# Altium schematic symbol library TEP-AltiumLib-Connectors.SCHLIB: 45 symbols
Pins are listed as number, name and electrical type; pins without a type are passive.

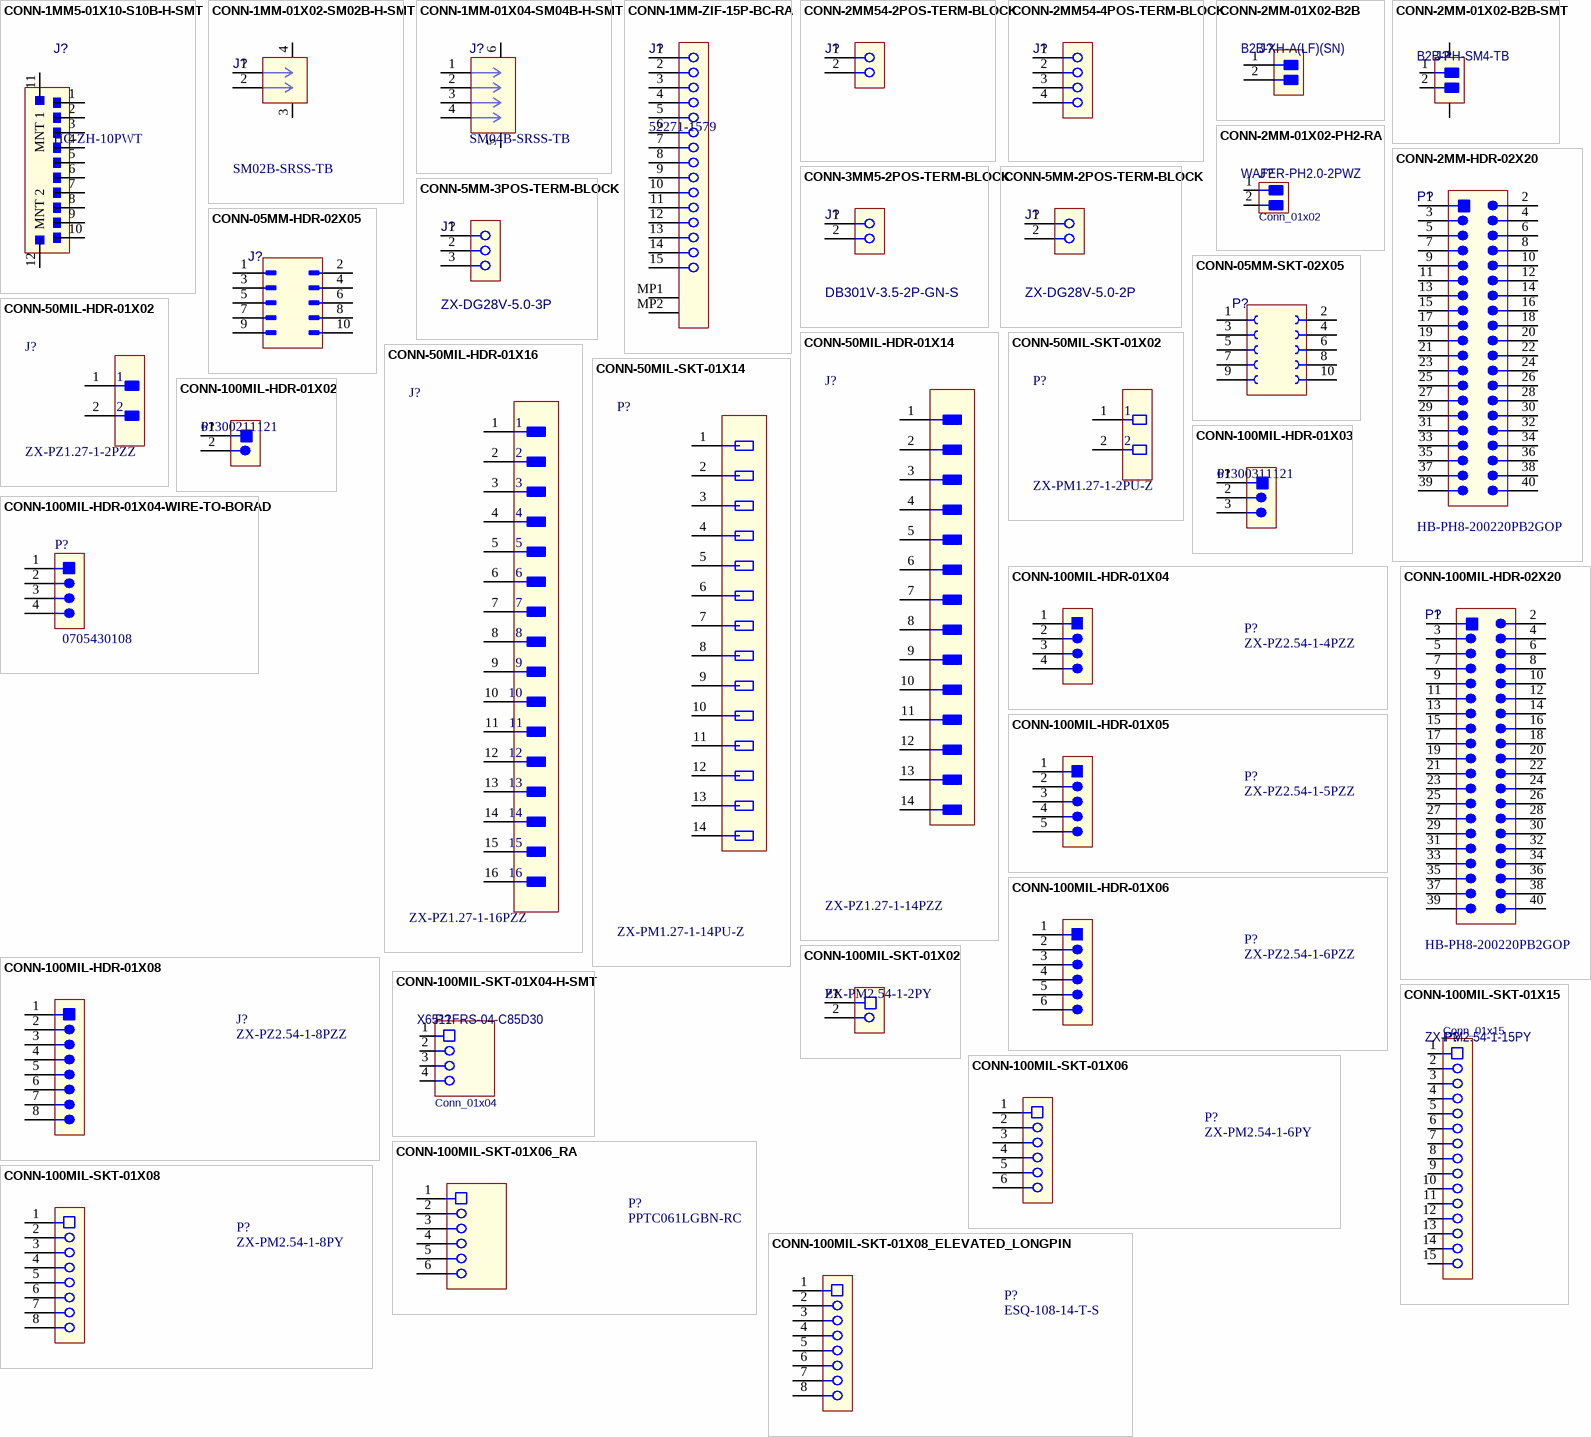
[diagram p0: symbols CONN-1MM5-01X10-S10B-H-SMT to CONN-100MIL-SKT-01X15]

## CONN-1MM5-01X10-S10B-H-SMT
designator J?, comment HC-ZH-10PWT
CONN wire to board SMT R/A 10POS 1.5mm; Manufacturer 1: HCTL; Manufacturer Part Number 1: HC-ZH-10PWT; Manufacturer 2: JST; Manufacturer Part Number 2: S10B-ZR-SM4A-TF(LF)(SN); Mounting Technology: SMT; Supplier 1: LCSC; Supplier 2: LCSC; Supplier Part Number 1: C2845432; Supplier Part Number 2: C5149249; Supplier 3: Digikey; Supplier Part Number 3: 455-1700-1-ND
footprint J_S10B-ZR-SM4 (CONN HEADER SMD 10POS 1MM5 RA)
pins: 1, 2, 3, 4, 5, 6, 7, 8, 9, 10, 11 MNT 1, 12 MNT 2

## CONN-1MM-01X02-SM02B-H-SMT
designator J?, comment SM02B-SRSS-TB
CONN HEADER SMT R/A 2POS 1MM; Manufacturer 1: JST; Manufacturer Part Number 1: SM02B-SRSS-TB; Manufacturer 2: G-Switch; Manufacturer Part Number 2: GT-A1002WRS-102SBT01; Mounting Technology: SMT; Supplier 1: Digikey; Supplier 2: LSSC; Supplier Part Number 1: 455-SM02B-SRSS-TBCT-ND; Supplier Part Number 2: C41431902
footprint CONN_SM02B-SRSS-TB_JST
pins: 1, 2, 3, 4

## CONN-1MM-01X04-SM04B-H-SMT
designator J?, comment SM04B-SRSS-TB
CONN HEADER SMT R/A 4POS 1MM; Manufacturer 1: JST; Manufacturer Part Number 1: SM04B-SRSS-TB; Manufacturer 2: G-Switch; Manufacturer Part Number 2: GT-A1002WRS-104SBT01; Mounting Technology: SMT; Supplier 1: Digikey; Supplier 2: LSSC; Supplier Part Number 1: 455-SM04B-SRSS-TBCT-ND; Supplier Part Number 2: C41431904
footprint CONN_SM04B-SRSS-TB_JST
pins: 1, 2, 3, 4, 5, 6

## CONN-1MM-ZIF-15P-BC-RA
designator J?, comment 52271-1579
Conns. ZIF 1.0 mm Pitch, Right Angle, Bottom Contact, 15pos; Manufacturer 1: Molex; Mounting Technology: SMT; Manufacturer Part Number 1: 52271-1579; Supplier 1: Digikey; Supplier 2: LSSC; Supplier Part Number 1: WM10967CT-ND; Supplier Part Number 2: C7545783
footprint MOLX-52271-1579 (FPC Connector, 15-Leads, Right Angle, Pitch 1.0 mm, Mated Height 3.0 mm, SMT)
pins: 1, 2, 3, 4, 5, 6, 7, 8, 9, 10, 11, 12, 13, 14, 15, MP1, MP2

## CONN-2MM54-2POS-TERM-BLOCK
designator J?
CONN TERM BLOCK 2POS 100mil pitch; Manufacturer 1: Dorabo; Manufacturer Part Number 1: DB125-2.54-2P-GN-S; Supplier 1: LCSC; Supplier Part Number 1: C918120; Mounting Technology: TH; Manufacturer 2: Amphenol; Manufacturer Part Number 2: VN02A1500000G; Supplier 2: Digikey; Supplier Part Number 2: VN02A1500000G-ND
footprint CONN_TERM_BLOCK_2POS_100MIL (2.54 mm Horizontal Entry Modular, 2 positions)
pins: 1 "USB Vcc [Red]", 2 "USB Data - [White]"

## CONN-2MM54-4POS-TERM-BLOCK
designator J?
CONN TERM BLOCK 4POS 100mil pitch; Manufacturer 1: Dorabo; Manufacturer Part Number 1: DB125-2.54-4P-GN-S; Supplier 1: LCSC; Supplier Part Number 1: C918122; Mounting Technology: TH; Manufacturer 2: Amphenol; Manufacturer Part Number 2: VN04A1500000G; Supplier 2: Digikey; Supplier Part Number 2: VN04A1500000G-ND
footprint CONN_TERM_BLOCK_4POS_100MIL (2.54 mm Horizontal Entry Modular, 4 positions)
pins: 1 "USB Vcc [Red]", 2 "USB Data - [White]", 3 "USB Data - [White]", 4 "USB Data - [White]"

## CONN-2MM-01X02-B2B
designator J?, comment B2B-XH-A(LF)(SN)
Conn. 2 pins JST B2B TH Straight 2mm; Value: Conn_01x02 TH; Manufacturer 1: JST; Manufacturer Part Number 1: B2B-XH-A(LF)(SN); Mounting Technology: SMT; Supplier 1: LCSC; Supplier 2: Farnell; Supplier Part Number 1: C158012; Supplier Part Number 2: 1516276
footprint J_B2B-XH-A_LF_JST
pins: 1, 2

## CONN-2MM-01X02-B2B-SMT
designator J?, comment B2B-PH-SM4-TB
Conn. 2 pins JST B2B SMT Straight 2mm; Value: Conn_01x02 SMT; Code CEGEP: KPTSO08; Manufacturer 1: JST; Manufacturer Part Number 1: B2B-PH-SM4-TB; Mounting Technology: SMT; Supplier 1: LCSC; Supplier 2: Mouser; Supplier Part Number 1: C160352; Supplier Part Number 2: 306-B2BPHSM4TBLFSN
footprint J_B2B-PH-SM4-TB_JST (CONN HEADER SMD 2POS 2MM STRAIGHT)
pins: 1 Pin_1, 2 Pin_2, S1, S2

## CONN-2MM-01X02-PH2-RA
designator J?, comment WAFER-PH2.0-2PWZ  value Conn_01x02
Conn. 2 pins JST PH2; Manufacturer 1: XUNPU; Manufacturer 2: JST; Manufacturer Part Number 1: WAFER-PH2.0-2PWZ; Manufacturer Part Number 2: S2B-PH-K-S; Mounting Technology: TH; Supplier 1: LCSC; Supplier 2: Mouser; Supplier Part Number 1: C5359610; Supplier Part Number 2: 306-S2BPHKSLFSNPP
footprint J_JST_PH_2_TH (2mm 2Pin, TH, Right Angle, Wire to board)
pins: 1 Pin_1, 2 Pin_2

## CONN-2MM-HDR-02X20
designator P?, comment HB-PH8-200220PB2GOP
CONN HEADER 2x20P 2mm TH; Manufacturer 1: Hanbo Electronic; Manufacturer Part Number 1: HB-PH8-200220PB2GOP; Mounting Technology: TH; Supplier 2: LSSC; Supplier Part Number 2: C6332234
footprint CONN_HDR_2ROWS_40POS_2MM
pins: 1, 2, 3, 4, 5, 6, 7, 8, 9, 10, 11, 12, 13, 14, 15, 16, 17, 18, 19, 20, 21, 22, 23, 24, 25, 26, 27, 28, 29, 30, 31, 32, 33, 34, 35, 36, 37, 38, 39, 40

## CONN-3MM5-2POS-TERM-BLOCK
designator J?, comment DB301V-3.5-2P-GN-S
CONN TERM BLOCK 2POS 3.5mm pitch; Manufacturer 1: Dorabo; Supplier 1: LCSC; Supplier Part Number 1: C695629; Manufacturer Part Number 1: DB301V-3.5-2P-GN-S; Mounting Technology: TH
footprint CONN_TERM_BLOCK_2POS_3mm5 (3.50 mm Horizontal Entry Modular, 2p)
pins: 1 "USB Vcc [Red]", 2 "USB Data - [White]"

## CONN-5MM-2POS-TERM-BLOCK
designator J?, comment ZX-DG28V-5.0-2P
CONN TERM BLOCK 2POS 5mm pitch; Manufacturer 1: Megastar; Code CEGEP: CONWECO0002; Localisation: R13-B113; Supplier 1: LCSC; Supplier Part Number 1: C49022995; Manufacturer Part Number 1: ZX-DG28V-5.0-2P; Mounting Technology: TH; Manufacturer 2: Weidmüller - Phoenix Contact; Manufacturer Part Number 2: 1760510000 - 1890963
footprint CONN_TERM_BLOCK_2POS_5mm_Model1 (Terminal Block 2 positions Throught hole)
pins: 1 "USB Vcc [Red]", 2 "USB Data - [White]"

## CONN-5MM-3POS-TERM-BLOCK
designator J?, comment ZX-DG28V-5.0-3P
CONN TERM BLOCK 3POS 5mm pitch; Manufacturer 1: Megastar; Code CEGEP: CONWECO0003 / KCONWECO0030; Localisation: / R13-E102; Supplier 1: LCSC; Supplier Part Number 1: ZX-DG28V-5.0-3P; Manufacturer Part Number 1: ZX-DG28V-5.0-3P; Mounting Technology: TH; Manufacturer 2: Weco - Phoenix Contact; Manufacturer Part Number 2: 950-DS/03 - 1890976
footprint CONN_TERM_BLOCK_3POS_5mm_Model1 (Terminal Block 3 positions Throught hole)
pins: 1 "USB Vcc [Red]", 2 "USB Data - [White]", 3 "USB Data - [White]"

## CONN-05MM-HDR-02X05
designator J?, comment HC-PBB12NB(3.0)-10DS-0.5V-03  (value not drawn)
Connector Receptacle 2x5pos, 0,5mm; Manufacturer 1: Hirose; Manufacturer Part Number 1: DF12NB(3.0)-10DS-0.5V(51); Value: Conn_02x05; Code CEGEP: KPTSO011; Localisation: R13-E076; Manufacturer 2: HCTL; Manufacturer Part Number 2: HC-PBB12NB(3.0)-10DS-0.5V-03; Mounting Technology: SMT; Supplier 1: LCSC; Supplier 2: Digikey; Supplier Part Number 1: C2904118; Supplier Part Number 2: 26-DF12NB(3.0)-10DS-0.5V(51)CT-ND
footprint J_CONN_HDR_2ROW_10POS_0MM5 (CONN HIROSE DF12NB)
pins: 1, 2, 3, 4, 5, 6, 7, 8, 9, 10

## CONN-05MM-SKT-02X05
designator P?, comment HC-PBB12NB(3.0)-10DP-0.5V-03  (value not drawn)
CONN SOCKET 2x5pos, 0,5mm; Manufacturer 1: HCTL; Value: Conn_02x05; Manufacturer 2: Hirose; Manufacturer Part Number 1: HC-PBB12NB(3.0)-10DP-0.5V-03; Manufacturer Part Number 2: DF12NB(3.0)-10DP-0.5V(51); Mounting Technology: SMT; Supplier 1: LCSC; Supplier 2: Digikey; Supplier Part Number 1: C22359413; Supplier Part Number 2: 26-DF12NB(3.0)-10DP-0.5V(51)CT-ND
footprint P_CONN_HDR_2ROW_10POS_0MM5 (CONN HIROSE DF12NB)
pins: 1, 2, 3, 4, 5, 6, 7, 8, 9, 10

## CONN-50MIL-HDR-01X02
designator J?, comment ZX-PZ1.27-1-2PZZ
CONN HEADER 2POS 1.27mm SINGLE ROW TH; Manufacturer 1: Megastar; Code CEGEP: KCONDIV124; Localisation: R13-E100; Mounting Technology: TH; Supplier 1: LCSC; Supplier Part Number 1: C41370734; Manufacturer 2: Sullins; Manufacturer Part Number 1: ZX-PZ1.27-1-2PZZ; Manufacturer Part Number 2: GRPB021VWVN-RC
footprint J_CONN_HDR_1ROW_2POS_50MIL
pins: 1, 2

## CONN-50MIL-HDR-01X14
designator J?, comment ZX-PZ1.27-1-14PZZ
CONN HEADER 14POS 1.27mm SINGLE ROW TH; Manufacturer 1: Megastar; Code CEGEP: KCONDIV123; Localisation: R13-E099; Mounting Technology: TH; Supplier 1: LCSC; Supplier Part Number 1: C41370746; Manufacturer Part Number 1: ZX-PZ1.27-1-14PZZ; Manufacturer 2: Sullins; Manufacturer Part Number 2: GRPB141VWVN-RC
footprint J_CONN_HDR_1ROW_14POS_50MIL
pins: 1, 2, 3, 4, 5, 6, 7, 8, 9, 10, 11, 12, 13, 14

## CONN-50MIL-HDR-01X16
designator J?, comment ZX-PZ1.27-1-16PZZ
CONN HEADER 16POS 1.27mm SINGLE ROW TH; Manufacturer 1: Megastar; Mounting Technology: TH; Supplier 1: LCSC; Supplier Part Number 1: C41370748; Manufacturer 2: Sullins; Manufacturer Part Number 1: ZX-PZ1.27-1-16PZZ; Manufacturer Part Number 2: GRPB161VWVN-RC
footprint J_CONN_HDR_1ROW_16POS_50MIL
pins: 1, 2, 3, 4, 5, 6, 7, 8, 9, 10, 11, 12, 13, 14, 15, 16

## CONN-50MIL-SKT-01X02
designator P?, comment ZX-PM1.27-1-2PU-Z
CONN SOCKET 2POS 1.27mm SINGLE ROW TH; Manufacturer 1: Megastar; Code CEGEP: KCONDIV122; Localisation: R13-E095; Mounting Technology: TH; Supplier 1: LCSC; Supplier Part Number 1: C41370629; Manufacturer 2: Sullins; Manufacturer Part Number 1: ZX-PM1.27-1-2PU-Z
footprint P_CONN_SKT_1ROW_2POS_50MIL
pins: 1, 2

## CONN-50MIL-SKT-01X14
designator P?, comment ZX-PM1.27-1-14PU-Z
CONN SOCKET 14POS 1.27mm SINGLE ROW TH; Manufacturer 1: Megastar; Code CEGEP: KCONDIV121; Localisation: R13-E094; Mounting Technology: TH; Supplier 1: LCSC; Supplier Part Number 1: C41370641; Manufacturer Part Number 1: ZX-PM1.27-1-14PU-Z; Manufacturer 2: Sullins
footprint P_CONN_SKT_1ROW_14POS_50MIL
pins: 1, 2, 3, 4, 5, 6, 7, 8, 9, 10, 11, 12, 13, 14

## CONN-100MIL-HDR-01X02
designator P?, comment 61300211121
CONN HEADER 2POS 100MIL; Manufacturer 1: Megastar; Manufacturer Part Number 1: ZX-PZ2.54-1-2PZZ; Mounting Technology: TH; Supplier 1: LCSC; Supplier Part Number 1: C7501260; Manufacturer 2: Würth Elektronik; Manufacturer Part Number 2: 61300211121
footprint CONN_HDR_2POS_100MILS_TH (Pin Header, pitch 2.54 mm, THT, Vertical, single row, 2p)
pins: 1, 2

## CONN-100MIL-HDR-01X03
designator P?, comment 61300311121
CONN HEADER 3pins single row, 100 mils TH; Manufacturer 1: Würth Elektronik; Manufacturer Part Number 1: 61300311121; Mounting Technology: TH; Supplier 1: Digikey; Supplier Part Number 1: 732-5316-ND
footprint CONN_HDR_3POS_100MILS_TH (Pin Header, pitch 2.54 mm, THT, Vertical, single row, 3p)
pins: 1, 2, 3

## CONN-100MIL-HDR-01X04
designator P?, comment ZX-PZ2.54-1-4PZZ  (no BOM)
Conn. Header 4pos 100mils; Manufacturer 1: Megastar; Mounting Technology: TH; Manufacturer Part Number 1: ZX-PZ2.54-1-4PZZ; Manufacturer 2: Würth Elektronik; Manufacturer Part Number 2: 61300411121; Supplier 1: LCSC; Supplier 2: Digikey; Supplier Part Number 2: 732-5317-ND; Supplier Part Number 1: C7501262
footprint CONN_HDR_01X04_100MIL (Header, 1x4 Pins, 2.54mm Pitch)
pins: 1, 2, 3, 4

## CONN-100MIL-HDR-01X04-WIRE-TO-BORAD
designator P?, comment 0705430108
CONN HEADER VERT 4POS 2.54MM; Manufacturer 1: CJT; Manufacturer Part Number 1: A2547WV-4P; Code CEGEP: CONDIV089; Localisation: AV-Q06--R14-J057; Supplier 1: LCSC; Supplier Part Number 1: C5224497; Manufacturer 2: Molex; Manufacturer Part Number 2: 0705430108; Supplier 2: Digikey; Supplier Part Number 2: WM4124-ND; Mounting Technology: TH
footprint MOLEX4
pins: 1, 2, 3, 4

## CONN-100MIL-HDR-01X05
designator P?, comment ZX-PZ2.54-1-5PZZ  (no BOM)
Conn. Header 5pos 100mils; Manufacturer 1: Megastar; Mounting Technology: TH; Manufacturer Part Number 1: ZX-PZ2.54-1-5PZZ; Manufacturer 2: Würth Elektronik; Manufacturer Part Number 2: 61300511121; Supplier 1: LCSC; Supplier 2: Digikey; Supplier Part Number 2: 732-5318-ND; Supplier Part Number 1: C7501263
footprint CONN_HDR_01X05_100MIL (Header, 1x5 Pins, 2.54mm Pitch)
pins: 1, 2, 3, 4, 5

## CONN-100MIL-HDR-01X06
designator P?, comment ZX-PZ2.54-1-6PZZ  (no BOM)
Conn. Header 6pos 100mils; Manufacturer 1: Megastar; Mounting Technology: TH; Manufacturer Part Number 1: ZX-PZ2.54-1-6PZZ; Manufacturer 2: Würth Elektronik; Manufacturer Part Number 2: 61300611121; Supplier 1: LCSC; Supplier 2: Digikey; Supplier Part Number 2: 732-5319-ND; Supplier Part Number 1: C7501264
footprint CONN_HDR_01X06_100MIL (Header, 1x6 Pins, 2.54mm Pitch)
pins: 1, 2, 3, 4, 5, 6

## CONN-100MIL-HDR-01X08
designator J?, comment ZX-PZ2.54-1-8PZZ
CONN Header 8pos 100mils; Manufacturer 1: Megastar; Mounting Technology: TH; Manufacturer Part Number 1: ZX-PZ2.54-1-8PZZ; Supplier 1: LCSC; Supplier Part Number 1: C7501266
footprint CONN_HDR_01X08_100MIL (SQ Post Header, 1x8 Pins, Vertical, 2.54mm Pitch, Male)
pins: 1, 2, 3, 4, 5, 6, 7, 8

## CONN-100MIL-HDR-02X20
designator P?, comment HB-PH8-200220PB2GOP
CONN HEADER 2x20P, 2mm TH; Manufacturer 1: Megastar; Manufacturer Part Number 1: ZX-PZ1.0-2-20PZZ; Mounting Technology: TH; Supplier 1: LCSC; Supplier Part Number 1: C41370695
footprint CONN_HDR_2ROWS_40POS_100MIL
pins: 1, 2, 3, 4, 5, 6, 7, 8, 9, 10, 11, 12, 13, 14, 15, 16, 17, 18, 19, 20, 21, 22, 23, 24, 25, 26, 27, 28, 29, 30, 31, 32, 33, 34, 35, 36, 37, 38, 39, 40

## CONN-100MIL-SKT-01X02
designator P?, comment ZX-PM2.54-1-2PY
CONN SOCKET 2pins single row , 100mils TH; Manufacturer 1: Megastar; Code CEGEP: KCONDIV109 / KCONDIV130; Localisation: R13-C051; Manufacturer Part Number 1: ZX-PM2.54-1-2PY; Mounting Technology: TH; Supplier 1: LCSC; Supplier Part Number 1: C7499322; Manufacturer 2: Würth Elektronik; Manufacturer Part Number 2: 61300211121
footprint CONN_SKT_2POS_100MILS_TH (Receptacle, pitch 2.54 mm, THT, Vertical, single row, 2p)
pins: 1, 2

## CONN-100MIL-SKT-01X04-H-SMT
designator P?, comment X6511FRS-04-C85D30  value Conn_01x04
CONN SOCKET 4 pins; Manufacturer 1: XKB Connection; Manufacturer 2: Harwin Inc.; Manufacturer Part Number 1: X6511FRS-04-C85D30; Manufacturer Part Number 2: M20-7910442R; Mounting Technology: SMT; Supplier 1: Digikey; Supplier 2: LCSC; Supplier Part Number 1: 952-3197-1-ND; Supplier Part Number 2: C5142237
footprint P_XKB_X6511FRS-04 (2.54mm Single Row 4Pin, Surface Mount, Right Angle Female Headers, 8.5mm)
pins: 1 Pin_1, 2 Pin_2, 3 Pin_3, 4 Pin_4

## CONN-100MIL-SKT-01X06
designator P?, comment ZX-PM2.54-1-6PY
CONN SOCKET 6pos 100mils; Manufacturer 1: Megastar; Mounting Technology: TH; Manufacturer Part Number 1: ZX-PM2.54-1-6PY; Supplier 1: LCSC; Supplier Part Number 1: C7499326
footprint CONN_SKT_01X06_100MIL (SQ Post Socket, 1x6 Pins, Vertical, 2.54mm Pitch, Female)
pins: 1, 2, 3, 4, 5, 6

## CONN-100MIL-SKT-01X06_RA
designator P?, comment PPTC061LGBN-RC
CONN SOCKET 6pos 100mils Right Angle; Manufacturer 1: Megastar; Manufacturer Part Number 1: ZX-PM2.54-1-6PWZ; Mounting Technology: TH; Manufacturer 2: Sullins; Manufacturer Part Number 2: PPTC061LGBN-RC; Supplier 1: LCSC; Supplier Part Number 1: C49326178; Manufacturer 3: Samtec; Manufacturer Part Number 3: SSW-106-02-T-S-RA; Supplier 2: Digikey; Supplier Part Number 2: S5442-ND
footprint P_CONN_HDR_1ROW_6POS_RA_100MIL (Header, 1x6 Pins, Right Angle, 2.54mm Pitch, Female)
pins: 1, 2, 3, 4, 5, 6

## CONN-100MIL-SKT-01X08
designator P?, comment ZX-PM2.54-1-8PY
CONN SOCKET 8pos 100mils; Manufacturer 1: Megastar; Mounting Technology: TH; Manufacturer Part Number 1: ZX-PM2.54-1-8PY; Supplier 1: LCSC; Supplier Part Number 1: C7499328
footprint CONN_SKT_01X08_100MIL (SQ Post Socket, 1x8 Pins, Vertical, 2.54mm Pitch, Female)
pins: 1, 2, 3, 4, 5, 6, 7, 8

## CONN-100MIL-SKT-01X08_ELEVATED_LONGPIN
designator P?, comment ESQ-108-14-T-S
CONN SOCKET 8pos 100mils Elevated; Manufacturer 1: Samtec; Mounting Technology: TH; Manufacturer Part Number 1: ESQ-108-14-T-S; Supplier 1: Digikey; Supplier Part Number 1: SAM9303-ND
footprint CONN_SKT_01X08_100MIL-ELEVATED-LONGPIN (SQ Post Socket, 1x8 Pins, Vertical, 2.54mm Pitch, Female)
pins: 1, 2, 3, 4, 5, 6, 7, 8

## CONN-100MIL-SKT-01X15
designator P?, comment ZX-PM2.54-1-15PY  value Conn_01x15
CONN SOCKET 15 pins; Manufacturer 1: Megastar; Manufacturer 2: Bossie; Manufacturer 3: Samtec; Manufacturer Part Number 1: ZX-PM2.54-1-15PY; Manufacturer Part Number 2: BX-PM2.54-1-15PY; Manufacturer Part Number 3: SSW-115-01-T-S; Mounting Technology: TH; Supplier 1: Digikey; Supplier Part Number 1: SAM1213-15-ND
footprint P_CONN_HDR_1ROW_15POS_100MIL (2.54mm Single Row 15Pin, TH, Female Headers)
pins: 1 Pin_1, 2 Pin_2, 3 Pin_3, 4 Pin_4, 5 Pin_5, 6 Pin_6, 7 Pin_7, 8 Pin_8, 9 Pin_9, 10 Pin_10, 11 Pin_11, 12 Pin_12, 13 Pin_13, 14 Pin_14, 15 Pin_15

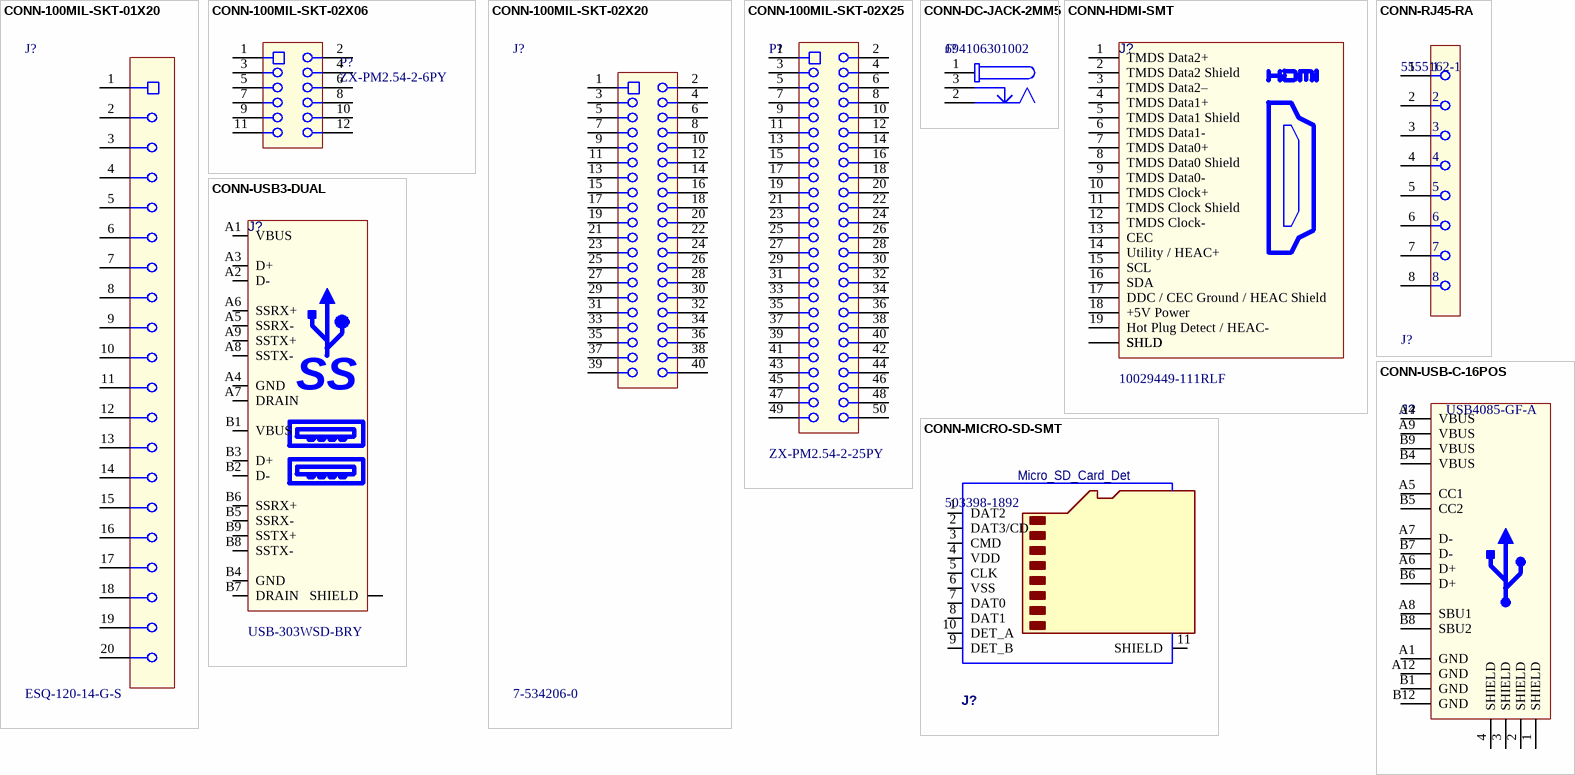
[diagram p1: symbols CONN-100MIL-SKT-01X20 to CONN-USB-C-16POS]

## CONN-100MIL-SKT-01X20
designator J?, comment ESQ-120-14-G-S
CONN SOCKET 20POS 2.54MM; Manufacturer 1: Megastar; Manufacturer Part Number 1: ZX-PM2.54-1-20PY; Code CEGEP: KCONDIV0053 / KCONDIV125; Localisation: R13-B035 / R13-D104; Mounting Technology: TH; Supplier 1: LCSC; Supplier Part Number 1: C7499336
footprint CONN-SKT-20POS-100MIL
pins: 1, 2, 3, 4, 5, 6, 7, 8, 9, 10, 11, 12, 13, 14, 15, 16, 17, 18, 19, 20

## CONN-100MIL-SKT-02X06
designator P?, comment ZX-PM2.54-2-6PY
CONN SOCKET 2x6POS, Dual row 100MIL; Manufacturer 1: Megastar; Mounting Technology: TH
footprint CONN_SKT_02X06_100MIL (SQ Post Socket, 2x6 Pins, Vertical, 2.54mm Pitch, Female)
pins: 1, 2, 3, 4, 5, 6, 7, 8, 9, 10, 11, 12

## CONN-100MIL-SKT-02X20
designator J?, comment 7-534206-0
CONN SOCKET 2x20POS 2.54mm; Manufacturer 1: Megastar; Manufacturer Part Number 1: ZX-PM2.54-2-20PY; Code CEGEP: CON40; Mounting Technology: TH; Supplier 1: LCSC; Supplier Part Number 1: C7499354; Manufacturer 2: Sullins; Manufacturer 3: TE Connectivity; Manufacturer Part Number 2: PPTC202LFBN-RC; Manufacturer Part Number 3: 7-534206-0; Supplier 2: Digikey; Supplier 3: S6104-ND
footprint CONN_Receptacle_2x20pos_100mil (Connector Receptacle 2 rows  TH)
pins: 1, 2, 3, 4, 5, 6, 7, 8, 9, 10, 11, 12, 13, 14, 15, 16, 17, 18, 19, 20, 21, 22, 23, 24, 25, 26, 27, 28, 29, 30, 31, 32, 33, 34, 35, 36, 37, 38, 39, 40

## CONN-100MIL-SKT-02X25
designator P?, comment ZX-PM2.54-2-25PY
CONN SOCKET 2x25POS, Dual row 100MIL; Manufacturer 1: Megastar; Code CEGEP: KCONDIV0105 / KCONDIV126; Localisation: R13-D074; Manufacturer Part Number 1: ZX-PM2.54-2-25PY; Mounting Technology: TH; Manufacturer 2: Sullins; Manufacturer Part Number 2: SFH11-PBPC-D25-ST-BK; Supplier 1: LCSC; Supplier 2: Digikey; Supplier Part Number 1: C7499355; Supplier Part Number 2: S9201-ND
footprint CONN-HEAD02X25-100MIL
pins: 1, 2, 3, 4, 5, 6, 7, 8, 9, 10, 11, 12, 13, 14, 15, 16, 17, 18, 19, 20, 21, 22, 23, 24, 25, 26, 27, 28, 29, 30, 31, 32, 33, 34, 35, 36, 37, 38, 39, 40, 41, 42, 43, 44, 45, 46, 47, 48, 49, 50

## CONN-DC-JACK-2MM5
designator J?, comment 694106301002
DC Barrel Connector 2.5mm; Manufacturer 1: XKB Connection; Manufacturer Part Number 1: DC-005-5A-2.5; Mounting Technology: TH; Supplier 1: LCSC; Supplier Part Number 1: C381115
footprint CONN_DC-JACK_RA (DC Power Jack Right Angle)
pins: 1, 2, 3

## CONN-HDMI-SMT
designator J?, comment 10029449-111RLF
HDMI Type A, 19 Positions, 0.5 mm Pitch; Manufacturer 1: Amphenol ICC / FCI; Manufacturer Part Number 1: 10029449-111RLF; Supplier 1: Digikey; Supplier Part Number 1: 609-4614-1-ND; Mounting Technology: SMT; Supplier 2: LSSC; Supplier Part Number 2: C427307
footprint CONN_HDMI_05P_19SMD (HDMI Receptacle Connector 19 Position Surface Mount, Right Angle Body 15x9.5mm, Pitch 0.5mm)
pins: 1 TMDS Data2+, 2 TMDS Data2 Shield, 3 TMDS Data2–, 4 TMDS Data1+, 5 TMDS Data1 Shield, 6 TMDS Data1-, 7 TMDS Data0+, 8 TMDS Data0 Shield, 9 TMDS Data0-, 10 TMDS Clock+, 11 TMDS Clock Shield, 12 TMDS Clock-, 13 CEC, 14 Utility / HEAC+, 15 SCL, 16 SDA, 17 DDC / CEC Ground / HEAC Shield, 18 +5V Power, 19 Hot Plug Detect / HEAC-, 20 SHLD, 21 SHLD, 22 SHLD, 23 SHLD

## CONN-MICRO-SD-SMT
designator J?, comment 503398-1892  value Micro_SD_Card_Det
CONN MICRO SD CARD R/A SMD; Manufacturer 1: Molex; Supplier 1: Digikey; Manufacturer Part Number 1: 503398-1892; Mounting Technology: SMT; Supplier 2: LSSC; Supplier Part Number 1: WM11190CT-ND; Supplier Part Number 2: C428492
footprint SDCARD_MOLEX_503398-1892
pins: 1 DAT2, 2 DAT3/CD, 3 CMD, 4 VDD, 5 CLK, 6 VSS, 7 DAT0, 8 DAT1, 9 DET_B, 10 DET_A, 11 SHIELD

## CONN-RJ45-RA
designator J?, comment 5555162-1
CONN MOD JACK 8P8C R/A UNSHLD TH; Manufacturer 1: TE Connectivity; Manufacturer Part Number 1: 5555162-1; Mounting Technology: TH; Supplier 1: Digikey; Supplier Part Number 1: A31419-ND
footprint CONN_RJ45_TH
pins: 1, 2, 3, 4, 5, 6, 7, 8

## CONN-USB3-DUAL
designator J?, comment USB-303WSD-BRY
CONN USB3.0 RCPT TYPE A STACK R/A; Manufacturer 1: XUNPU; Manufacturer Part Number 1: USB-303WSD-BRY; Manufacturer 2: Würth Elektronik; Manufacturer Part Number 2: 692141030100; Mounting Technology: TH; Supplier 1: LCSC; Supplier 2: Digikey; Supplier Part Number 1: C2895028; Supplier Part Number 2: 732-3156-ND
footprint CONN_USB3_TypeA_Stacked_TH (USB 3.0 Type A Stacked 692141030100)
pins: A1 VBUS, A2 D-, A3 D+, A4 GND, A5 SSRX-, A6 SSRX+, A7 DRAIN, A8 SSTX-, A9 SSTX+, B1 VBUS, B2 D-, B3 D+, B4 GND, B5 SSRX-, B6 SSRX+, B7 DRAIN, B8 SSTX-, B9 SSTX+, Shell SHIELD
text: SS

## CONN-USB-C-16POS
designator J?, comment USB4085-GF-A
CONN RCPT USB2.0 TYPE C RA - TH; Manufacturer 1: Global Connector Technology; Code CEGEP: ? (R13-B182); Manufacturer Part Number 1: USB4085-GF-A; Mounting Technology: TH; Supplier 1: LCSC; Supplier 2: Digikey; Supplier Part Number 1: C7095263; Supplier Part Number 2: 2073-USB4085-GF-ACT-ND
footprint CONN-USB-C-TH-RA-16POS
pins: 1 SHIELD, 2 SHIELD, 3 SHIELD, 4 SHIELD, A1 GND, A4 VBUS, A5 CC1, A6 D+, A7 D-, A8 SBU1, A9 VBUS, A12 GND, B1 GND, B4 VBUS, B5 CC2, B6 D+, B7 D-, B8 SBU2, B9 VBUS, B12 GND